# EAGLE library part DS1010 (library oldchips2)
10 Taps Delay line
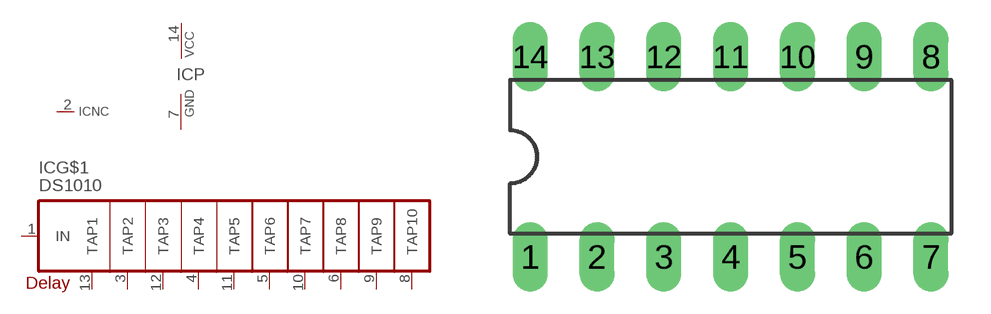
[diagram p2: symbol with the pads of DIL14; footprint DIL14]

Designator prefix IC; gates G$1=DELAY_10_TAPS NC=NC P=PWRN

## DS1010N  [DIL14]
1  G$1:IN  in
2  NC:NC  nc
3  G$1:TAP2  out
4  G$1:TAP4  out
5  G$1:TAP6  out
6  G$1:TAP8  out
7  P:GND  pwr
8  G$1:TAP10  out
9  G$1:TAP9  out
10  G$1:TAP7  out
11  G$1:TAP5  out
12  G$1:TAP3  out
13  G$1:TAP1  out
14  P:VCC  pwr

## Footprint DIL14 (pad centres in mm)
Dual In Line Package
drill 0.813 long: 1 -7.62,-3.81; 2 -5.08,-3.81; 3 -2.54,-3.81; 4 0,-3.81; 5 2.54,-3.81; 6 5.08,-3.81; 7 7.62,-3.81; 8 7.62,3.81; 9 5.08,3.81; 10 2.54,3.81; 11 0,3.81; 12 -2.54,3.81; 13 -5.08,3.81; 14 -7.62,3.81